# EAGLE library part HD-A512RD (library LED displeje)
LED displej 14,2 mm 3 mist
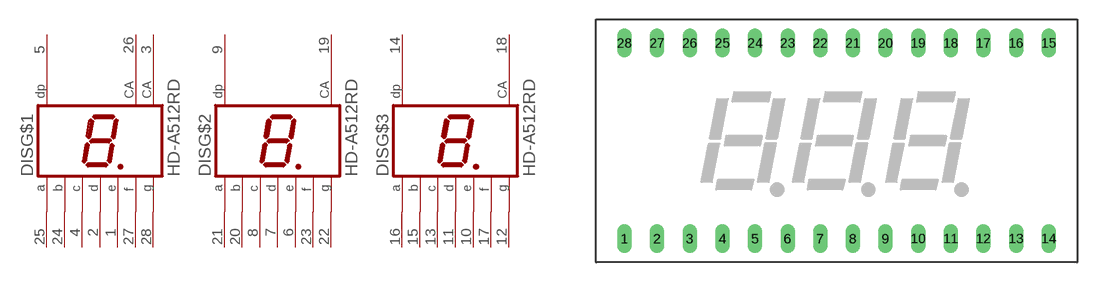
[diagram p26: symbol with the pads of HD-A51X; footprint HD-A51X]

Designator prefix DIS; gates G$1=HD7-A G$2=HD7-1A G$3=HD7-1A

## HD-A512RD  [HD-A51X]
1  G$1:E  pas
2  G$1:D  pas
3  G$1:CA  pas
4  G$1:C  pas
5  G$1:DP  pas
6  G$2:E  pas
7  G$2:D  pas
8  G$2:C  pas
9  G$2:DP  pas
10  G$3:E  pas
11  G$3:D  pas
12  G$3:G  pas
13  G$3:C  pas
14  G$3:DP  pas
15  G$3:B  pas
16  G$3:A  pas
17  G$3:F  pas
18  G$3:CA  pas
19  G$2:CA  pas
20  G$2:B  pas
21  G$2:A  pas
22  G$2:G  pas
23  G$2:F  pas
24  G$1:B  pas
25  G$1:A  pas
26  G$1:CA  pas
27  G$1:F  pas
28  G$1:G  pas

## Footprint HD-A51X (pad centres in mm)
drill 0.61 long: 1 -16.51,-7.62; 2 -13.97,-7.62; 3 -11.43,-7.62; 4 -8.89,-7.62; 5 -6.35,-7.62; 6 -3.81,-7.62; 7 -1.27,-7.62; 8 1.27,-7.62; 9 3.81,-7.62; 10 6.35,-7.62; 11 8.89,-7.62; 12 11.43,-7.62; 13 13.97,-7.62; 14 16.51,-7.62; 15 16.51,7.62; 16 13.97,7.62; 17 11.43,7.62; 18 8.89,7.62; 19 6.35,7.62; 20 3.81,7.62; 21 1.27,7.62; 22 -1.27,7.62; 23 -3.81,7.62; 24 -6.35,7.62; 25 -8.89,7.62; 26 -11.43,7.62; 27 -13.97,7.62; 28 -16.51,7.62